# Altium footprint library LED.PcbLib: 35 footprints (part 1 of 3)
Each footprint in its own frame and in the unit in brackets; x right, y up, seen from the top. Pads: shape width x height; smd on the part's side, far side on the other; paste and mask are expansions set on the pad; w line width, h text height; cw(c..) or ccw(c..) is an arc to the next point about the centre after c.
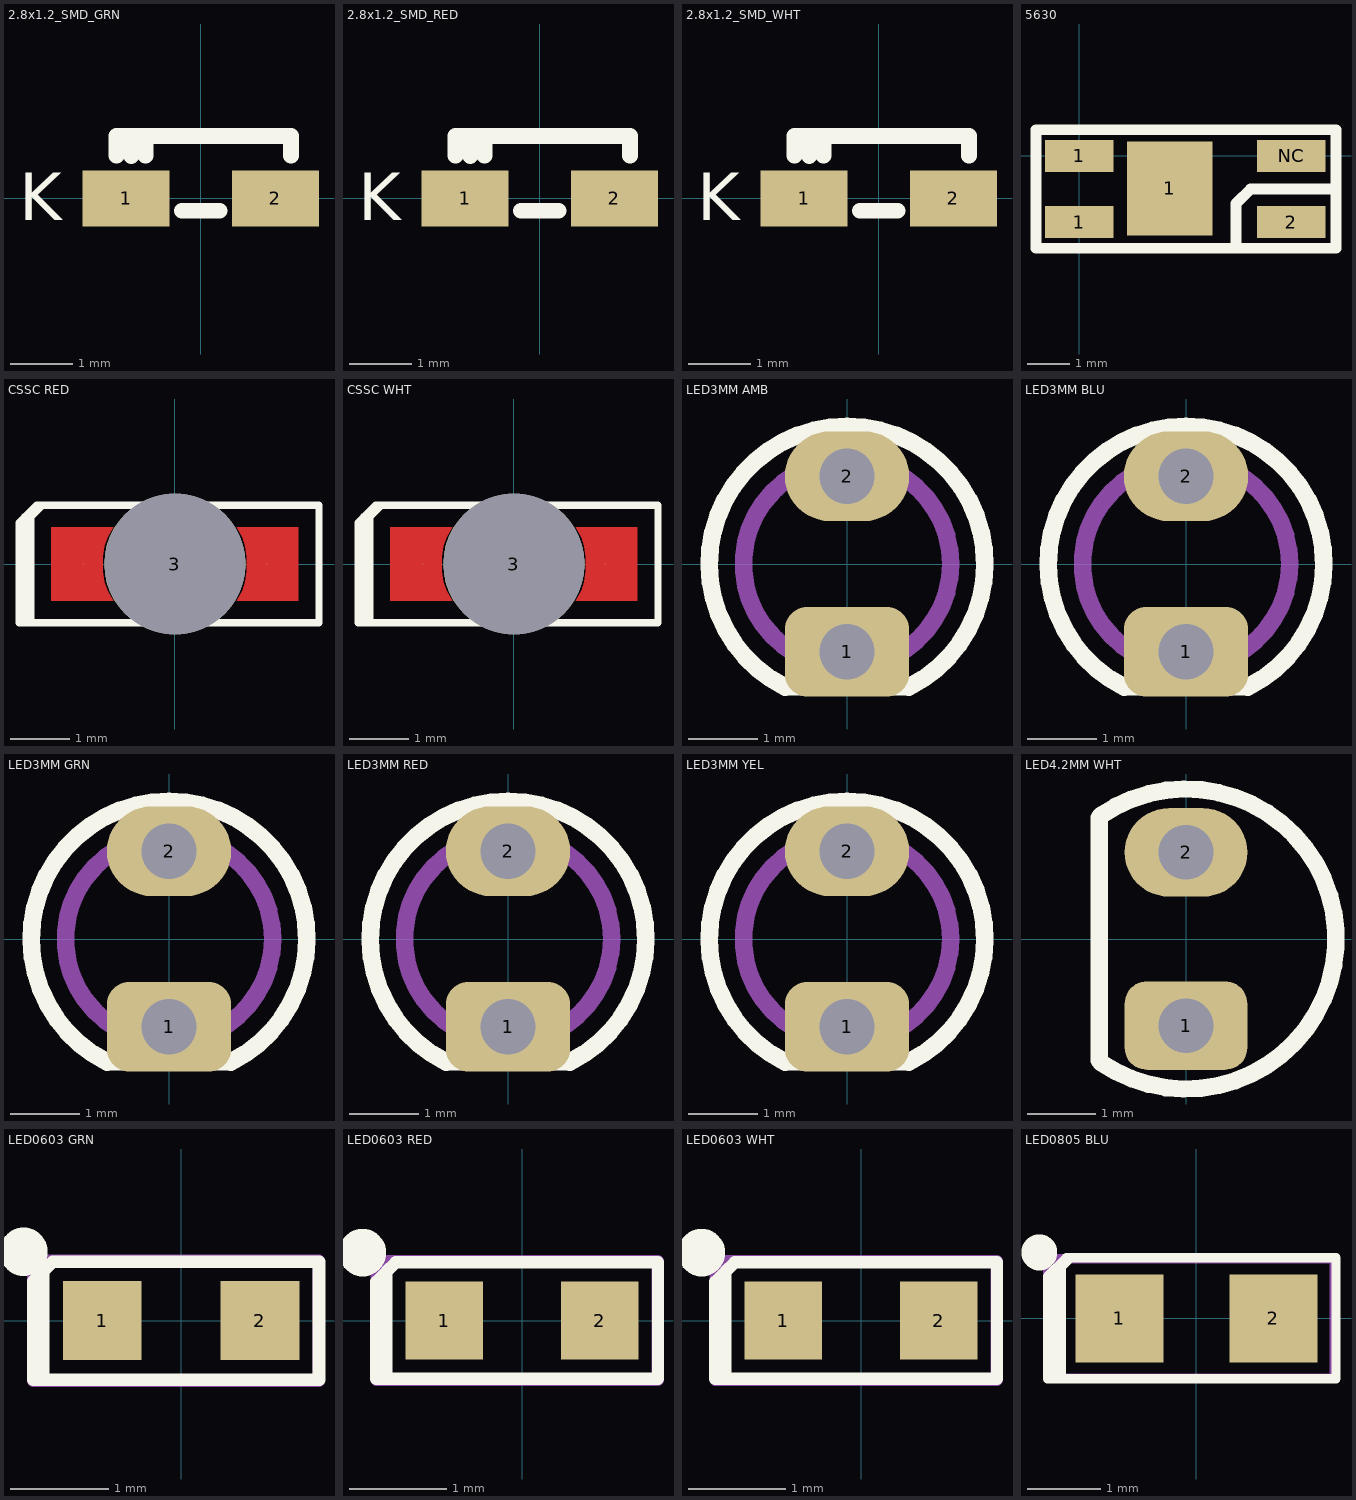
[diagram p0: the footprints below, top view; thin cyan lines are the x and y axes]

## 2.8x1.2_SMD_GRN [mm]
pads (2):
  rect 1.4x0.9 smd: 1(-1.2,0) 2(1.2,0)
Top Overlay:
  lines w0.254: -1.352,0.686 -1.352,1 1.448,1 1.448,0.686 ; -1.118,0.676 -1.118,0.991 ; -0.889,0.686 -0.889,1 ; -0.3,-0.2 0.3,-0.2
  text "K" at -2.921,-0.356 h0.76
3D body: height 0.8, standoff 0, extent -1.479,-0.327 1.575,1.127

## 2.8x1.2_SMD_RED [mm]
pads (2):
  rect 1.4x0.9 smd: 1(-1.2,0) 2(1.2,0)
Top Overlay:
  lines w0.254: -1.352,0.686 -1.352,1 1.448,1 1.448,0.686 ; -1.118,0.676 -1.118,0.991 ; -0.889,0.686 -0.889,1 ; -0.3,-0.2 0.3,-0.2
  text "K" at -2.921,-0.356 h0.76
3D body: height 0.8, standoff 0, extent -1.479,-0.327 1.575,1.127

## 2.8x1.2_SMD_WHT [mm]
pads (2):
  rect 1.4x0.9 smd: 1(-1.2,0) 2(1.2,0)
Top Overlay:
  lines w0.254: -1.352,0.686 -1.352,1 1.448,1 1.448,0.686 ; -1.118,0.676 -1.118,0.991 ; -0.889,0.686 -0.889,1 ; -0.3,-0.2 0.3,-0.2
  text "K" at -2.921,-0.356 h0.76
3D body: height 0.8, standoff 0, extent -1.479,-0.327 1.575,1.127

## 5630 [mm]
pads (5):
  rect 1.6x0.75 smd: 1(0,-1.55) 1(0,0) 2(4.95,-1.55) NC(4.95,0)
  rect 2x2.2 smd: 1(2.108,-0.762)
Top Overlay:
  lines w0.254: 3.658,-2.159 3.658,-1.118 4,-0.775 5.994,-0.775 ; -1.016,-2.159 5.994,-2.159 5.994,0.61 -1.016,0.61 -1.016,-2.159
3D body "User Library-LED_5630.step": height 0.86, standoff -0.04, extent -0.412,-2.286 5.188,0.714

## CSSC RED [mm]
pads (3):
  round 0 smd paste-25.4 mask-25.4: 1(-1.55,0) 2(1.55,0)
  round 2.4 hole 2.4 unplated: 3(0,0)
Top Layer:
  region: 2.1,0.625 1.05,0.625 1.15,0.45 1.2,0.3 1.225,0.125 1.225,0 1.225,-0.125 1.2,-0.3 1.15,-0.45 1.05,-0.625 2.1,-0.625
  region: -2.1,-0.625 -1.05,-0.625 -1.15,-0.45 -1.2,-0.3 -1.225,-0.125 -1.225,0 -1.225,0.125 -1.2,0.3 -1.15,0.45 -1.05,0.625 -2.1,0.625
Top Overlay:
  lines w0.127: -2.65,0.6 -2.25,1 ; -2.55,-1 -2.55,0.8 ; -2.45,-1 -2.45,0.9 ; -2.65,-1 2.45,-1 2.45,1 -2.35,1 -2.65,0.7 -2.65,-1
Top Paste:
  region: 2.1,0.625 1.05,0.625 1.15,0.45 1.2,0.3 1.225,0.125 1.225,0 1.225,-0.125 1.2,-0.3 1.15,-0.45 1.05,-0.625 2.1,-0.625
  region: -2.1,-0.625 -1.05,-0.625 -1.15,-0.45 -1.2,-0.3 -1.225,-0.125 -1.225,0 -1.225,0.125 -1.2,0.3 -1.15,0.45 -1.05,0.625 -2.1,0.625
Top Solder:
  region: 2.178,0.703 2.21,0.625 2.21,-0.625 2.178,-0.703 2.1,-0.735 1.05,-0.735 1.024,-0.724 0.995,-0.72 0.986,-0.709 0.972,-0.703 0.961,-0.676 0.944,-0.654 0.946,-0.639 0.94,-0.625 0.951,-0.599 0.955,-0.57 1.049,-0.405 1.093,-0.275 1.115,-0.117 1.115,0 1.115,0.117 1.093,0.275 1.049,0.405 0.955,0.57 0.951,0.599 0.94,0.625 0.946,0.639 0.944,0.654 0.961,0.676 0.972,0.703 0.986,0.709 0.995,0.72 1.024,0.724 1.05,0.735 2.1,0.735
  region: -1.024,0.724 -0.995,0.72 -0.986,0.709 -0.972,0.703 -0.961,0.676 -0.944,0.654 -0.946,0.639 -0.94,0.625 -0.951,0.599 -0.955,0.57 -1.049,0.405 -1.093,0.275 -1.115,0.117 -1.115,0 -1.115,-0.117 -1.093,-0.275 -1.049,-0.405 -0.955,-0.57 -0.951,-0.599 -0.94,-0.625 -0.946,-0.639 -0.944,-0.654 -0.961,-0.676 -0.972,-0.703 -0.986,-0.709 -0.995,-0.72 -1.024,-0.724 -1.05,-0.735 -2.1,-0.735 -2.178,-0.703 -2.21,-0.625 -2.21,0.625 -2.178,0.703 -2.1,0.735 -1.05,0.735
3D body "CSSC RED.STEP": height 0.25, standoff -0.85, extent -1.7,-0.63 1.7,0.62

## CSSC WHT [mm]
pads (3):
  round 0 smd paste-25.4 mask-25.4: 1(-1.55,0) 2(1.55,0)
  round 2.4 hole 2.4 unplated: 3(0,0)
Top Layer:
  region: 2.1,0.625 1.05,0.625 1.15,0.45 1.2,0.3 1.225,0.125 1.225,0 1.225,-0.125 1.2,-0.3 1.15,-0.45 1.05,-0.625 2.1,-0.625
  region: -2.1,-0.625 -1.05,-0.625 -1.15,-0.45 -1.2,-0.3 -1.225,-0.125 -1.225,0 -1.225,0.125 -1.2,0.3 -1.15,0.45 -1.05,0.625 -2.1,0.625
Top Overlay:
  lines w0.127: -2.65,0.6 -2.25,1 ; -2.55,-1 -2.55,0.8 ; -2.45,-1 -2.45,0.9 ; -2.65,-1 2.45,-1 2.45,1 -2.35,1 -2.65,0.7 -2.65,-1
Top Paste:
  region: 2.1,0.625 1.05,0.625 1.15,0.45 1.2,0.3 1.225,0.125 1.225,0 1.225,-0.125 1.2,-0.3 1.15,-0.45 1.05,-0.625 2.1,-0.625
  region: -2.1,-0.625 -1.05,-0.625 -1.15,-0.45 -1.2,-0.3 -1.225,-0.125 -1.225,0 -1.225,0.125 -1.2,0.3 -1.15,0.45 -1.05,0.625 -2.1,0.625
Top Solder:
  region: 2.178,0.703 2.21,0.625 2.21,-0.625 2.178,-0.703 2.1,-0.735 1.05,-0.735 1.024,-0.724 0.995,-0.72 0.986,-0.709 0.972,-0.703 0.961,-0.676 0.944,-0.654 0.946,-0.639 0.94,-0.625 0.951,-0.599 0.955,-0.57 1.049,-0.405 1.093,-0.275 1.115,-0.117 1.115,0 1.115,0.117 1.093,0.275 1.049,0.405 0.955,0.57 0.951,0.599 0.94,0.625 0.946,0.639 0.944,0.654 0.961,0.676 0.972,0.703 0.986,0.709 0.995,0.72 1.024,0.724 1.05,0.735 2.1,0.735
  region: -1.024,0.724 -0.995,0.72 -0.986,0.709 -0.972,0.703 -0.961,0.676 -0.944,0.654 -0.946,0.639 -0.94,0.625 -0.951,0.599 -0.955,0.57 -1.049,0.405 -1.093,0.275 -1.115,0.117 -1.115,0 -1.115,-0.117 -1.093,-0.275 -1.049,-0.405 -0.955,-0.57 -0.951,-0.599 -0.94,-0.625 -0.946,-0.639 -0.944,-0.654 -0.961,-0.676 -0.972,-0.703 -0.986,-0.709 -0.995,-0.72 -1.024,-0.724 -1.05,-0.735 -2.1,-0.735 -2.178,-0.703 -2.21,-0.625 -2.21,0.625 -2.178,0.703 -2.1,0.735 -1.05,0.735
3D body "CSSC WHT.STEP": height 0.25, standoff -0.85, extent -1.7,-0.63 1.7,0.62

## LED3MM AMB [mm]
pads (2):
  rrect50% 1.8x1.3 hole 0.8: 1(0,-1.27)
  oval 1.8x1.3 hole 0.8: 2(0,1.27)
Top Overlay:
  lines w0.254: -0.893,-1.783 cw(c0,0) 0.893,-1.783 ; -0.889,-1.778 0.889,-1.778
Mechanical 1:
  circle w0.254: c0,0 r1.499
3D body "LED3AMB.stp": height 4.97, standoff -2.5, extent -1.654,-1.549 1.646,1.664

## LED3MM BLU [mm]
pads (2):
  rrect50% 1.8x1.3 hole 0.8: 1(0,-1.27)
  oval 1.8x1.3 hole 0.8: 2(0,1.27)
Top Overlay:
  lines w0.254: -0.893,-1.783 cw(c0,0) 0.893,-1.783 ; -0.889,-1.778 0.889,-1.778
Mechanical 1:
  circle w0.254: c0,0 r1.499
3D body "LED3BLU.stp": height 4.98, standoff -2.5, extent -1.654,-1.549 1.646,1.664

## LED3MM GRN [mm]
pads (2):
  rrect50% 1.8x1.3 hole 0.8: 1(0,-1.27)
  oval 1.8x1.3 hole 0.8: 2(0,1.27)
Top Overlay:
  lines w0.254: -0.893,-1.783 cw(c0,0) 0.893,-1.783 ; -0.889,-1.778 0.889,-1.778
Mechanical 1:
  circle w0.254: c0,0 r1.499
3D body "LED3GRN.STEP": height 4.97, standoff -2.5, extent -1.654,-1.549 1.646,1.664

## LED3MM RED [mm]
pads (2):
  rrect50% 1.8x1.3 hole 0.8: 1(0,-1.27)
  oval 1.8x1.3 hole 0.8: 2(0,1.27)
Top Overlay:
  lines w0.254: -0.893,-1.783 cw(c0,0) 0.893,-1.783 ; -0.889,-1.778 0.889,-1.778
Mechanical 1:
  circle w0.254: c0,0 r1.499
3D body "LED3RED.STEP": height 4.98, standoff -2.5, extent -1.654,-1.549 1.646,1.664

## LED3MM YEL [mm]
pads (2):
  rrect50% 1.8x1.3 hole 0.8: 1(0,-1.27)
  oval 1.8x1.3 hole 0.8: 2(0,1.27)
Top Overlay:
  lines w0.254: -0.893,-1.783 cw(c0,0) 0.893,-1.783 ; -0.889,-1.778 0.889,-1.778
Mechanical 1:
  circle w0.254: c0,0 r1.499
3D body "LED3YEL.STEP": height 5.51, standoff -2.49, extent -1.654,-1.636 1.646,1.664

## LED4.2MM WHT [mm]
pads (2):
  rrect50% 1.8x1.3 hole 0.8: 1(0,-1.27)
  oval 1.8x1.3 hole 0.8: 2(0,1.27)
Top Overlay:
  lines w0.254: -1.27,-1.778 -1.27,1.778 ; -1.252,-1.809 ccw(c0,0) -1.249,1.811
3D body "LED4.2MM WHT.step": height 6.2, standoff -3.6, extent -1.55,-2.1 2.1,2.1

## LED0603 GRN [mm]
pads (2):
  rect 0.8x0.8 smd: 1(-0.8,0) 2(0.8,0)
Top Overlay:
  circle w0.4: c-1.6,0.7 r0.045
  lines w0.127: -1.4,-0.6 -1.4,0.5 -1.3,0.6 ; -1.1,0.6 -1.3,0.6 ; -1.3,0.6 1.4,0.6 1.4,-0.6 -1.5,-0.6 -1.5,0.4 -1.3,0.6
Mechanical 15:
  lines w0.127: -1.499,-0.61 -1.499,0.61 1.397,0.61 1.397,-0.61 -1.499,-0.61
  text ".Designator" at 0,0 h0.76
3D body "LED0603GRN.STEP": height 0.6, standoff 0, extent -0.81,-0.4 0.81,0.4

## LED0603 RED [mm]
pads (2):
  rect 0.8x0.8 smd: 1(-0.8,0) 2(0.8,0)
Top Overlay:
  circle w0.4: c-1.645,0.7 r0.045
  lines w0.127: -1.4,-0.6 -1.4,0.5 -1.3,0.6 ; -1.1,0.6 -1.3,0.6 ; -1.3,0.6 1.4,0.6 1.4,-0.6 -1.5,-0.6 -1.5,0.4 -1.3,0.6
Mechanical 15:
  lines w0.127: -1.499,-0.61 1.397,-0.61 1.397,0.61 -1.499,0.61 -1.499,-0.61
  text ".Designator" at 0,0 h0.76
3D body "LED0603RED.step": height 0.6, standoff 0, extent -0.81,-0.4 0.81,0.4

## LED0603 WHT [mm]
pads (2):
  rect 0.8x0.8 smd: 1(-0.8,0) 2(0.8,0)
Top Overlay:
  circle w0.4: c-1.645,0.7 r0.045
  lines w0.127: -1.4,-0.6 -1.4,0.5 -1.3,0.6 ; -1.1,0.6 -1.3,0.6 ; -1.3,0.6 1.4,0.6 1.4,-0.6 -1.5,-0.6 -1.5,0.4 -1.3,0.6
Mechanical 15:
  lines w0.127: -1.499,-0.61 1.397,-0.61 1.397,0.61 -1.499,0.61 -1.499,-0.61
  text ".Designator" at 0,0 h0.76
3D body "LED0603WHT.STEP": height 0.6, standoff 0, extent -0.81,-0.4 0.81,0.4

## LED0805 BLU [mm]
pads (2):
  rect 1.2x1.2 smd: 1(-1.05,0) 2(1.05,0)
Top Overlay:
  circle w0.4: c-2.145,0.9 r0.045
  lines w0.127: -2.032,0.508 -1.714,0.826 ; -1.968,-0.826 -1.968,0.635 ; -1.905,-0.826 -1.905,0.699 ; -1.841,-0.826 -1.841,0.762 ; -2.032,-0.826 -2.032,0.572 -1.778,0.826 1.905,0.826 1.905,-0.826 -2.032,-0.826
Mechanical 15:
  lines w0.127: -2.032,-0.813 1.88,-0.813 1.88,0.813 -2.032,0.813 -2.032,-0.813
  text ".Designator" at 0,0 h0.76
3D body "LED0805BLU.STEP": height 1.1, standoff 0, extent -1.01,-0.625 1.01,0.625